# EAGLE library part RJ45*2 (library con-tycoelectronics)
RJ45 Low Profile Shield Type 2 For all RJ45 L, LC, LCT and X Series Models Source: www.tycoelectronics.com .. ENG_DS_1654001_1099_RJ_L_0507.pdf
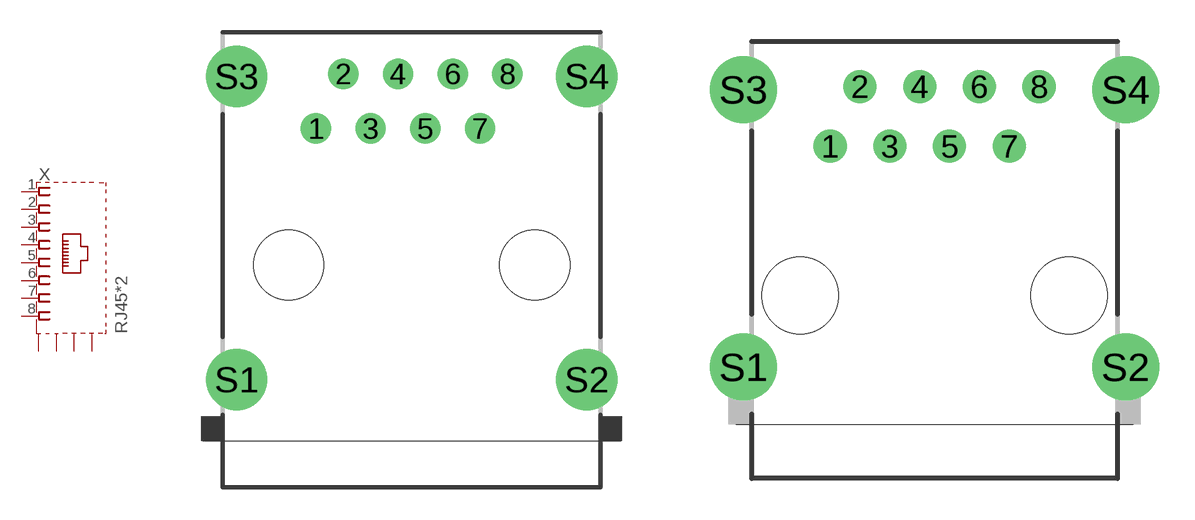
[diagram p3: symbol with the pads of RJ45-SHIELD2; footprints RJ45-SHIELD2, RJ45-SHIELD1]

Designator prefix X

## RJ45-6L2-S (MPN: RJ45-6L2-S; OC_FARNELL: unknown; OC_NEWARK: 16R6097), RJ45-6LC2-S (MPN: RJ45-6LC2-S; OC_FARNELL: unknown; OC_NEWARK: 16R6095), RJ45-6LCT2-S (OC_FARNELL: unknown; OC_NEWARK: unknown), RJ45-8L2-S (MF: TYCO ELECTRONICS; MPN: RJ45-8L2-S; OC_FARNELL: unknown; OC_NEWARK: 52K4446), RJ45-8LC2-S (MPN: RJ45-8LC2-S; OC_FARNELL: unknown; OC_NEWARK: 16R6099), RJ45-8LCT2-S (MF: TYCO ELECTRONICS; MPN: RJ45-8LCT2-S; OC_FARNELL: unknown; OC_NEWARK: 84K0524)  [RJ45-SHIELD2]
1  1  pas
2  2  pas
3  3  pas
4  4  pas
5  5  pas
6  6  pas
7  7  pas
8  8  pas
S1  S  pas
S2  S  pas
S3  S  pas
S4  S  pas

## RJ45-6L2-B (MPN: RJ45-6L2-B; OC_FARNELL: unknown; OC_NEWARK: 16R6096), RJ45-6LC2-B (MPN: RJ45-6LC2-B; OC_FARNELL: unknown; OC_NEWARK: 16R6094), RJ45-8L2-B (MF: TYCO ELECTRONICS; MPN: RJ45-8L2-B; OC_FARNELL: unknown; OC_NEWARK: 52K3810), RJ45-8LC2-B (MF: TYCO ELECTRONICS; MPN: RJ45-8LC2-B.; OC_FARNELL: unknown; OC_NEWARK: 50F1338), RJ45-8LCT2-B (MF: TYCO ELECTRONICS; MPN: RJ45-8LCT2-B; OC_FARNELL: unknown; OC_NEWARK: 91F7263)  [RJ45-SHIELD2]
Pads as for RJ45-SHIELD2

## RJ45-6L21-S (OC_FARNELL: unknown; OC_NEWARK: unknown), RJ45-6LC21-S (OC_FARNELL: unknown; OC_NEWARK: unknown), RJ45-8L21-S (OC_FARNELL: unknown; OC_NEWARK: unknown), RJ45-8LC21-S (OC_FARNELL: unknown; OC_NEWARK: unknown), RJ45-8LCT21-S (OC_FARNELL: unknown; OC_NEWARK: unknown)  [RJ45-SHIELD1]
Pads as for RJ45-SHIELD2

## RJ45-6L21-B (OC_FARNELL: unknown; OC_NEWARK: unknown), RJ45-6LC21-B (OC_FARNELL: unknown; OC_NEWARK: unknown), RJ45-8L21-B (OC_FARNELL: unknown; OC_NEWARK: unknown), RJ45-8LC21-B (OC_FARNELL: unknown; OC_NEWARK: unknown), RJ45-8LCT21-B (OC_FARNELL: unknown; OC_NEWARK: unknown)  [RJ45-SHIELD1]
Pads as for RJ45-SHIELD2

## Footprint RJ45-SHIELD2 (pad centres in mm)
RJ45 Low Profile Shield Type 2 For all RJ45 L, LC, LCT and X Series Models Source: www.tycoelectronics.com .. ENG_DS_1654001_1099_RJ_L_0507.pdf
drill 0.9 pad 1.4: 1 -4.445,6.35; 2 -3.175,8.89; 3 -1.905,6.35; 4 -0.635,8.89; 5 0.635,6.35; 6 1.905,8.89; 7 3.175,6.35; 8 4.445,8.89
drill 1.9 pad 2.5: S1 -8.128,-5.33; S2 8.128,-5.33; S3 -8.128,8.76; S4 8.128,8.76
hole 3.251 at -5.715,0
hole 3.251 at 5.715,0

## Footprint RJ45-SHIELD1 (pad centres in mm)
RJ45 Low Profile Shield Type 1 For all RJ45 N and Z Series Models Source: www.tycoelectronics.com .. ENG_DS_1654001_1099_RJ_L_0507.pdf
drill 0.9 pad 1.4: 1 -4.445,6.35; 2 -3.175,8.89; 3 -1.905,6.35; 4 -0.635,8.89; 5 0.635,6.35; 6 1.905,8.89; 7 3.175,6.35; 8 4.445,8.89
drill 1.9 pad 2.5: S1 -8.128,-3.048; S2 8.128,-3.048; S3 -8.128,8.76; S4 8.128,8.76
hole 3.251 at -5.715,0
hole 3.251 at 5.715,0